# Altium footprint library GasDischargeTube.PcbLib: 1 footprints
Each footprint in its own frame and in the unit in brackets; x right, y up, seen from the top. Pads: shape width x height; smd on the part's side, far side on the other; paste and mask are expansions set on the pad; w line width, h text height; cw(c..) or ccw(c..) is an arc to the next point about the centre after c.
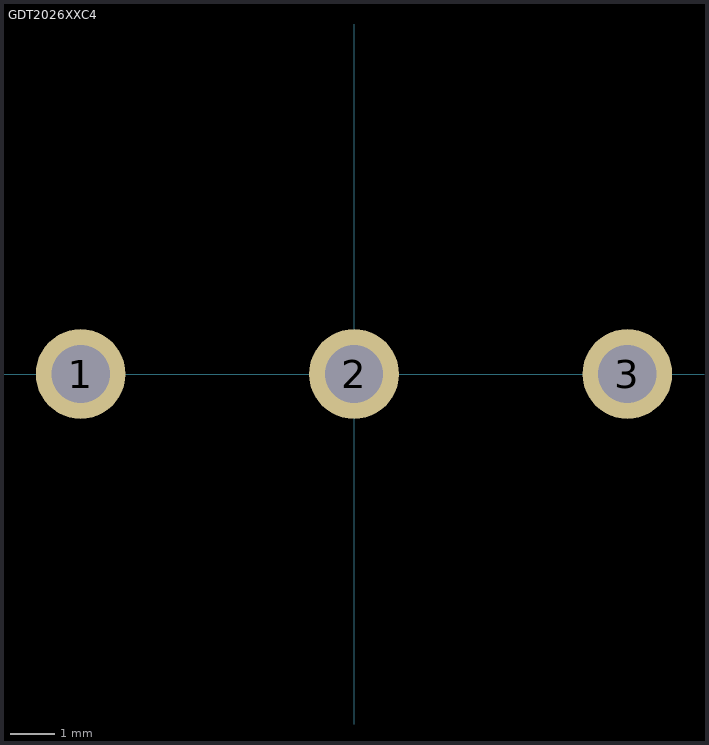
[diagram p0: the footprint, top view; thin cyan lines are the x and y axes]

## GDT2026XXC4 [mm]
pads (3):
  round 2 hole 1.3: 1(-6.1,0) 2(0,0) 3(6.1,0)
3D body: height 8.95, standoff -6.45, extent -6.6,-4.064 6.6,3.836